# Altium footprint library PASSIVE_SMD.PCBLIB: 249 footprints (part 8 of 16)
Each footprint in its own frame and in the unit in brackets; x right, y up, seen from the top. Pads: shape width x height; smd on the part's side, far side on the other; paste and mask are expansions set on the pad; w line width, h text height; cw(c..) or ccw(c..) is an arc to the next point about the centre after c.
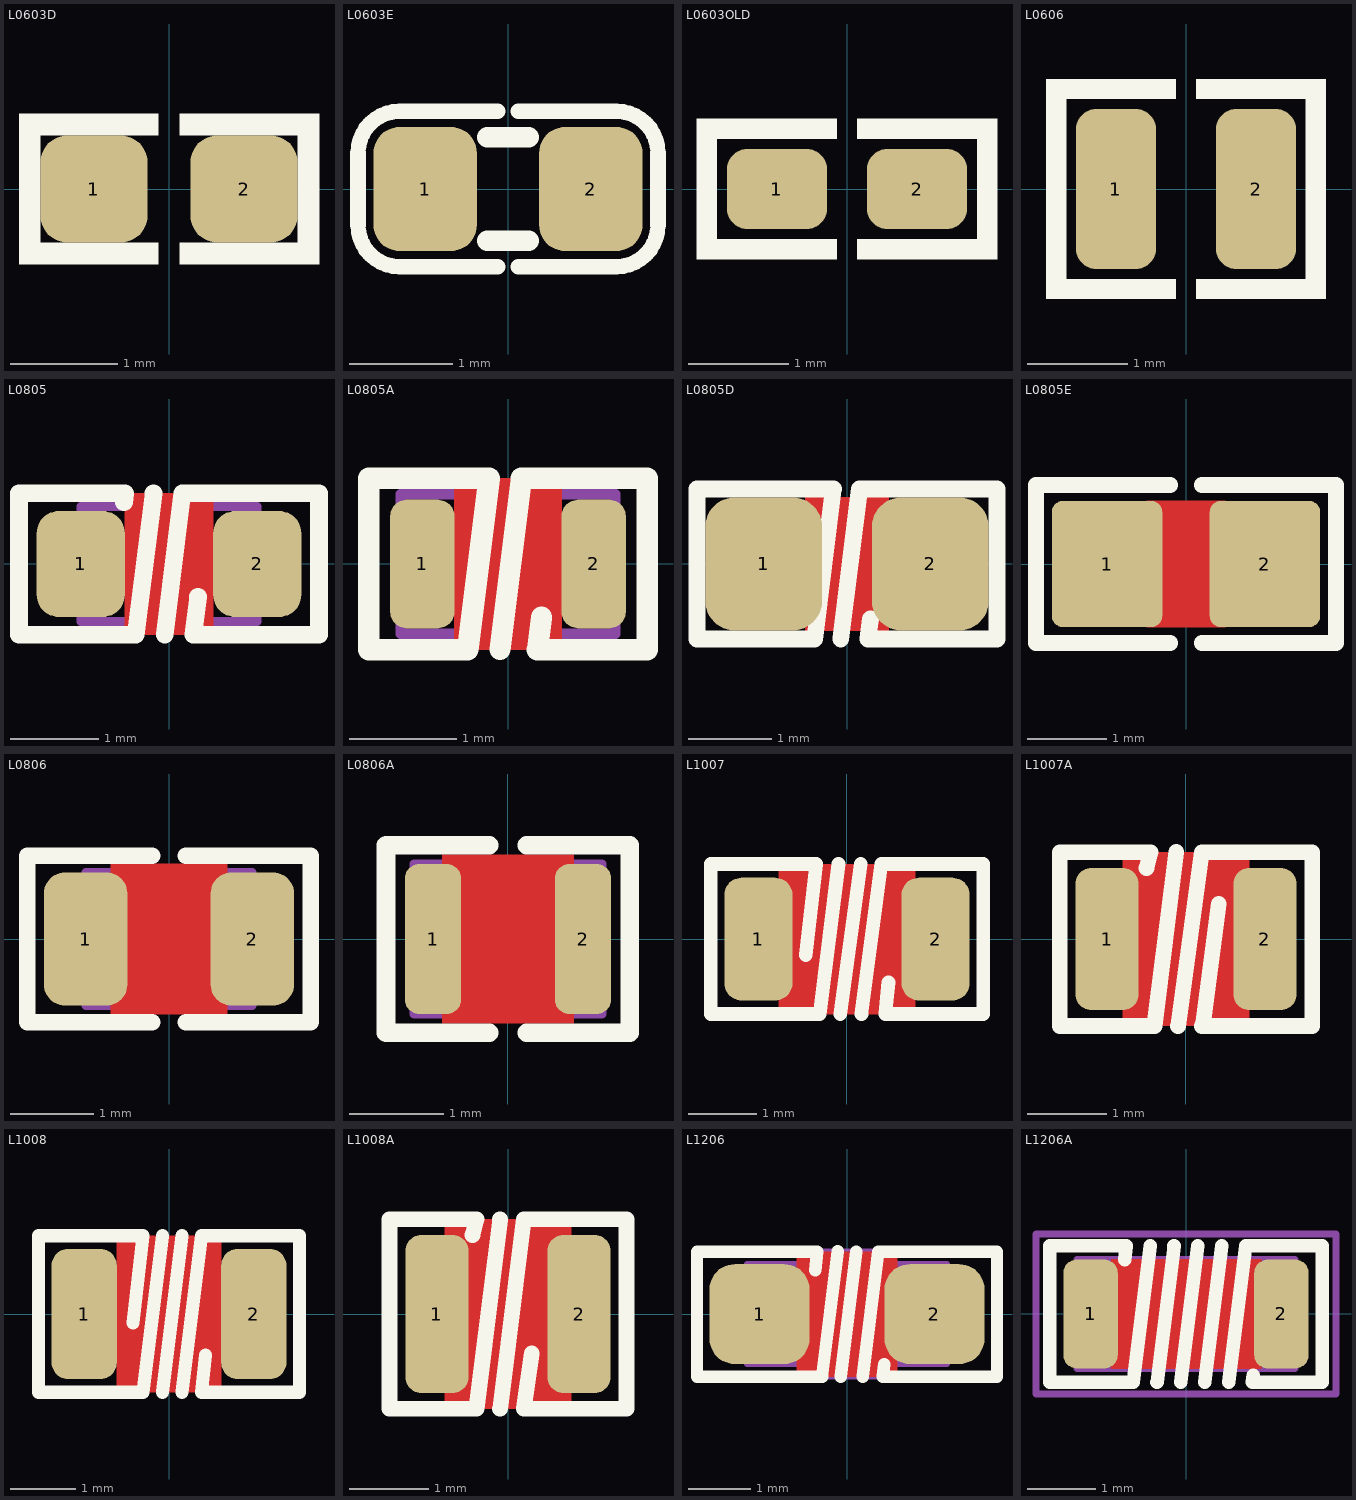
[diagram p7: the footprints below, top view; thin cyan lines are the x and y axes]

## L0603D [mm] "INDUCTOR, FERRITE BEAD, 0603, 1.6X0.8mm, SMD (SolderMask Defined)"
height 0.6
pads (2):
  rrect50% 1x1 smd paste-0.5 mask-0.1: 1(-0.7,0) 2(0.7,0)
Top Overlay:
  region: 0.1,-0.5 0.1,-0.7 1.4,-0.7 1.4,-0.5
  region: 0.1,0.5 0.1,0.7 1.4,0.7 1.4,0.5
  region: 1.4,0.7 1.2,0.7 1.2,-0.7 1.4,-0.7
  region: -1.4,0.7 -1.2,0.7 -1.2,-0.7 -1.4,-0.7
  region: -0.1,0.5 -0.1,0.7 -1.4,0.7 -1.4,0.5
  region: -0.1,-0.5 -0.1,-0.7 -1.4,-0.7 -1.4,-0.5
Top Paste:
  region: -0.4,-0.05 -0.4,0.05 -0.4,0.12 -0.453,0.248 -0.552,0.347 -0.68,0.4 -0.75,0.4 -0.85,0.4 -0.9,0.4 -0.992,0.362 -1.062,0.292 -1.1,0.2 -1.1,0.15 -1.1,-0.15 -1.1,-0.2 -1.062,-0.292 -0.992,-0.362 -0.9,-0.4 -0.85,-0.4 -0.75,-0.4 -0.68,-0.4 -0.552,-0.347 -0.453,-0.248 -0.4,-0.12
  region: 0.4,-0.05 0.4,0.05 0.4,0.12 0.453,0.248 0.552,0.347 0.68,0.4 0.75,0.4 0.85,0.4 0.9,0.4 0.992,0.362 1.062,0.292 1.1,0.2 1.1,0.15 1.1,-0.15 1.1,-0.2 1.062,-0.292 0.992,-0.362 0.9,-0.4 0.85,-0.4 0.75,-0.4 0.68,-0.4 0.552,-0.347 0.453,-0.248 0.4,-0.12
3D body "User Library-Chip Inductor0603.step": height 0.95, standoff 0, extent -0.8,-0.4 0.8,0.4

## L0603E [mm] "INDUCTOR, FERRITE BEAD, 0603, 1.6X0.8mm, EXPANDED PAD"
height 0.6
pads (2):
  rrect50% 1x1.2 smd paste-0.5 mask+0.05: 1(-0.8,0) 2(0.8,0)
Top Overlay:
  lines w0.15: -0.1,-0.75 -1.05,-0.75 cw(c-1.05,-0.35) -1.45,-0.35 -1.45,0.35 cw(c-1.05,0.35) -1.05,0.75 -0.1,0.75 ; 0.1,-0.75 1.05,-0.75 ccw(c1.05,-0.35) 1.45,-0.35 1.45,0.35 ccw(c1.05,0.35) 1.05,0.75 0.1,0.75
  lines w0.2: -0.2,-0.5 0.2,-0.5 ; -0.2,0.5 0.2,0.5
Top Paste:
  region: 0.35,-0.1 0.35,0.1 0.35,0.16 0.396,0.27 0.48,0.354 0.59,0.4 0.65,0.4 1.1,0.4 1.13,0.4 1.185,0.377 1.227,0.335 1.25,0.28 1.25,0.25 1.25,-0.25 1.25,-0.28 1.227,-0.335 1.185,-0.377 1.13,-0.4 1.1,-0.4 0.65,-0.4 0.59,-0.4 0.48,-0.354 0.396,-0.27 0.35,-0.16
  region: -0.35,-0.1 -0.35,0.1 -0.35,0.16 -0.396,0.27 -0.48,0.354 -0.59,0.4 -0.65,0.4 -1.1,0.4 -1.13,0.4 -1.185,0.377 -1.227,0.335 -1.25,0.28 -1.25,0.25 -1.25,-0.25 -1.25,-0.28 -1.227,-0.335 -1.185,-0.377 -1.13,-0.4 -1.1,-0.4 -0.65,-0.4 -0.59,-0.4 -0.48,-0.354 -0.396,-0.27 -0.35,-0.16
3D body "User Library-Chip Inductor0603.step": height 0.95, standoff 0, extent -0.8,-0.4 0.8,0.4

## L0603OLD [mm] "INDUCTOR, FERRITE BEAD, 0603, 1.6X0.8mm"
height 0.6
pads (2):
  rrect50% 1x0.8 smd paste-0.4 mask+0.05: 1(-0.7,0) 2(0.7,0)
Top Overlay:
  region: -0.1,-0.5 -0.1,-0.7 -1.5,-0.7 -1.5,-0.5
  region: -0.1,0.5 -0.1,0.7 -1.5,0.7 -1.5,0.5
  region: -1.5,0.7 -1.3,0.7 -1.3,-0.7 -1.5,-0.7
  region: 1.5,0.7 1.3,0.7 1.3,-0.7 1.5,-0.7
  region: 0.1,0.5 0.1,0.7 1.5,0.7 1.5,0.5
  region: 0.1,-0.5 0.1,-0.7 1.5,-0.7 1.5,-0.5
Top Paste:
  region: 0.7,0.35 0.63,0.35 0.502,0.297 0.403,0.198 0.35,0.07 0.35,0 0.35,-0.07 0.403,-0.198 0.502,-0.297 0.63,-0.35 0.7,-0.35 0.9,-0.35 0.93,-0.35 0.985,-0.327 1.027,-0.285 1.05,-0.23 1.05,-0.2 1.05,0.2 1.05,0.23 1.027,0.285 0.985,0.327 0.93,0.35 0.9,0.35
  region: -0.7,0.35 -0.63,0.35 -0.502,0.297 -0.403,0.198 -0.35,0.07 -0.35,0 -0.35,-0.07 -0.403,-0.198 -0.502,-0.297 -0.63,-0.35 -0.7,-0.35 -0.9,-0.35 -0.93,-0.35 -0.985,-0.327 -1.027,-0.285 -1.05,-0.23 -1.05,-0.2 -1.05,0.2 -1.05,0.23 -1.027,0.285 -0.985,0.327 -0.93,0.35 -0.9,0.35
3D body "User Library-Chip Inductor0603.step": height 0.95, standoff 0, extent -0.8,-0.4 0.8,0.4

## L0606 [mm] "INDUCTOR, FERRITE BEAD, 0603, 1.6X1.6mm"
height 0.6
pads (2):
  rrect50% 0.8x1.6 smd mask+0.05: 1(-0.7,0) 2(0.7,0)
Top Overlay:
  region: -0.1,-0.9 -0.1,-1.1 -1.4,-1.1 -1.4,-0.9
  region: -0.1,0.9 -0.1,1.1 -1.4,1.1 -1.4,0.9
  region: -1.4,1.1 -1.2,1.1 -1.2,-1.1 -1.4,-1.1
  region: 1.4,1.1 1.2,1.1 1.2,-1.1 1.4,-1.1
  region: 0.1,0.9 0.1,1.1 1.4,1.1 1.4,0.9
  region: 0.1,-0.9 0.1,-1.1 1.4,-1.1 1.4,-0.9
3D body: height 0.1, standoff 0, extent 0.3,-0.8 0.7,0.8
3D body: height 0.1, standoff 0, extent -0.7,-0.8 -0.3,0.8
3D body: height 0.3, standoff 0.1, extent -0.8,-0.8 0.8,0.8
3D body: height 0.7, standoff 0.1, extent -0.5,-0.5 0.5,0.5
3D body: height 1, standoff 0.7, extent -0.8,-0.8 0.8,0.8

## L0805 [mm] "INDUCTOR, FERRITE BEAD, 0805, 2.0X1.3mm"
pads (2):
  rrect50% 1x1.2 smd paste-0.1 mask+0.075: 1(-1,0) 2(1,0)
Top Layer:
  pour cut-out: -0.5,0.8 0.5,0.8 0.5,-0.8 -0.5,-0.8
Top Overlay:
  lines w0.2: -0.51,0.698 -0.498,0.8 ; -0.5,0.8 -1.7,0.8 -1.7,-0.8 -0.375,-0.8 -0.175,0.8 ; -0.05,-0.8 0.15,0.8 1.7,0.8 1.7,-0.8 0.275,-0.8 0.329,-0.369
Mechanical 13:
  lines w0.1: -1,-0.65 1,-0.65 1,0.65 -1,0.65 -1,-0.65
3D body "User Library-ind_0805.step": height 0.95, standoff 0, extent -1,-0.6 1,0.6

## L0805A [mm] "INDUCTOR, 2.0X1.3mm, 0805, for PCBA"
pads (2):
  rrect50% 0.6x1.2 smd mask+0.075: 1(-0.8,0) 2(0.8,0)
Top Layer:
  pour cut-out: -0.5,0.8 0.5,0.8 0.5,-0.8 -0.5,-0.8
Top Overlay:
  lines w0.2: -0.075,-0.797 0.125,0.8 1.3,0.8 1.3,-0.8 0.275,-0.8 0.313,-0.498 ; -1.3,-0.8 -1.3,0.8 -0.175,0.8 -0.375,-0.8 -1.3,-0.8
Mechanical 13:
  lines w0.1: -1,-0.65 1,-0.65 1,0.65 -1,0.65 -1,-0.65
3D body "User Library-ind_0805.step": height 0.95, standoff 0, extent -1,-0.6 1,0.6

## L0805D [mm] "INDUCTOR, FERRITE BEAD, 0805, 2.0X1.3mm, SMD (SolderMask Defined)"
pads (2):
  rrect50% 1.4x1.6 smd paste-5 mask-0.2: 1(-1,0) 2(1,0)
Top Layer:
  pour cut-out: -0.5,0.8 0.5,0.8 0.5,-0.8 -0.5,-0.8
Top Overlay:
  lines w0.2: -0.4,-0.9 -1.8,-0.9 -1.8,0.9 -0.175,0.9 ; -0.388,-0.902 -0.163,0.898 ; -0.075,-0.9 0.15,0.9 1.8,0.9 1.8,-0.9 0.25,-0.9 0.282,-0.657
Top Paste:
  region: -0.9,0.5 -0.82,0.5 -0.673,0.439 -0.561,0.327 -0.5,0.18 -0.5,0.1 -0.5,-0.1 -0.5,-0.18 -0.561,-0.327 -0.673,-0.439 -0.82,-0.5 -0.9,-0.5 -1.15,-0.5 -1.18,-0.5 -1.235,-0.477 -1.277,-0.435 -1.3,-0.38 -1.3,-0.35 -1.3,0.35 -1.3,0.38 -1.277,0.435 -1.235,0.477 -1.18,0.5 -1.15,0.5
  region: 0.9,0.5 0.82,0.5 0.673,0.439 0.561,0.327 0.5,0.18 0.5,0.1 0.5,-0.1 0.5,-0.18 0.561,-0.327 0.673,-0.439 0.82,-0.5 0.9,-0.5 1.15,-0.5 1.18,-0.5 1.235,-0.477 1.277,-0.435 1.3,-0.38 1.3,-0.35 1.3,0.35 1.3,0.38 1.277,0.435 1.235,0.477 1.18,0.5 1.15,0.5
Mechanical 13:
  lines w0.1: -1,-0.65 1,-0.65 1,0.65 -1,0.65 -1,-0.65
3D body "User Library-ind_0805.step": height 0.95, standoff 0, extent -1,-0.6 1,0.6

## L0805E [mm] "INDUCTOR, FERRITE BEAD, 0805, EXPANDED PAD"
pads (2):
  rrect20% 1.4x1.6 smd paste-0.7 mask+0.1: 1(-1,0) 2(1,0)
Top Layer:
  pour cut-out: -0.5,0.8 0.5,0.8 0.5,-0.8 -0.5,-0.8
Top Overlay:
  lines w0.2: -0.2,-1 -1.9,-1 -1.9,1 -0.2,1 ; 0.2,-1 1.9,-1 1.9,1 0.2,1
Top Paste:
  region: 0.5,0.2 0.5,0.28 0.561,0.427 0.673,0.539 0.82,0.6 0.9,0.6 1.4,0.6 1.44,0.6 1.513,0.57 1.57,0.513 1.6,0.44 1.6,0.4 1.6,-0.4 1.6,-0.44 1.57,-0.513 1.513,-0.57 1.44,-0.6 1.4,-0.6 0.9,-0.6 0.82,-0.6 0.673,-0.539 0.561,-0.427 0.5,-0.28 0.5,-0.2
  region: -0.5,0.2 -0.5,0.28 -0.561,0.427 -0.673,0.539 -0.82,0.6 -0.9,0.6 -1.4,0.6 -1.44,0.6 -1.513,0.57 -1.57,0.513 -1.6,0.44 -1.6,0.4 -1.6,-0.4 -1.6,-0.44 -1.57,-0.513 -1.513,-0.57 -1.44,-0.6 -1.4,-0.6 -0.9,-0.6 -0.82,-0.6 -0.673,-0.539 -0.561,-0.427 -0.5,-0.28 -0.5,-0.2
3D body "User Library-ind_0805.step": height 0.95, standoff 0, extent -1,-0.6 1,0.6

## L0806 [mm] "INDUCTOR, 2016, 0806, 2.0X1.6mm"
height 1
pads (2):
  rrect50% 1x1.6 smd paste-0.1 mask+0.05: 1(-1,0) 2(1,0)
Top Layer:
  pour cut-out: -0.7,0.9 0.7,0.9 0.7,-0.9 -0.7,-0.9
Top Overlay:
  lines w0.2: -0.2,-1 -1.7,-1 -1.7,1 -0.2,1 ; 0.2,-1 1.7,-1 1.7,1 0.2,1
Mechanical 13:
  lines w0.1: -1,-0.8 -1,0.8 1,0.8 1,-0.8 -1,-0.8
3D body: height 0.1, standoff 0, extent -1,-0.8 -0.5,0.8
3D body: height 1, standoff 0.1, extent -0.6,-0.8 0.6,0.8
3D body: height 1, standoff 0, extent -1,-0.8 -0.6,0.8
3D body: height 1, standoff 0, extent 0.6,-0.8 1,0.8
3D body: height 0.1, standoff 0, extent 0.5,-0.8 1,0.8

## L0806A [mm] "INDUCTOR, 2016, 0806, 2.0X1.6mm"
height 1
pads (2):
  rrect50% 0.6x1.6 smd paste-0.05 mask+0.05: 1(-0.8,0) 2(0.8,0)
Top Layer:
  pour cut-out: -0.7,0.9 0.7,0.9 0.7,-0.9 -0.7,-0.9
Top Overlay:
  lines w0.2: -0.2,-1 -1.3,-1 -1.3,1 -0.2,1 ; 0.2,-1 1.3,-1 1.3,1 0.2,1
Mechanical 13:
  lines w0.1: -1,-0.8 1,-0.8 1,0.8 -1,0.8 -1,-0.8
3D body: height 0.1, standoff 0, extent 0.5,-0.8 1,0.8
3D body: height 1, standoff 0, extent 0.6,-0.8 1,0.8
3D body: height 1, standoff 0, extent -1,-0.8 -0.6,0.8
3D body: height 1, standoff 0.1, extent -0.6,-0.8 0.6,0.8
3D body: height 0.1, standoff 0, extent -1,-0.8 -0.5,0.8

## L1007 [mm] "INDUCTOR, 2518 [1007], 2.5X1.8mm"
height 1.8
pads (2):
  rrect50% 1x1.8 smd paste-0.1 mask+0.075: 1(-1.3,0) 2(1.3,0)
Top Layer:
  pour cut-out: -1,1.1 -1,-1.1 1,-1.1 1,1.1
Top Overlay:
  lines w0.2: -0.604,-0.235 -0.45,1.1 -2,1.1 -2,-1.1 -0.4,-1.1 -0.125,1.103 ; -0.1,-1.1 0.2,1.1 ; 0.212,-1.102 0.5,1.1 2,1.1 2,-1.1 0.56,-1.1 0.608,-0.631
3D body: height 1.2, standoff 0, extent 1.2,-0.9 1.25,0.9
3D body: height 0.05, standoff 0, extent 0.65,-0.9 1.25,0.9
3D body: height 0.05, standoff 0, extent -1.25,-0.9 -0.65,0.9
3D body: height 1.2, standoff 0, extent -1.25,-0.9 -1.2,0.9
3D body: height 1.2, standoff 0.05, extent -1.2,-0.9 1.2,0.9

## L1007A [mm] "INDUCTOR, 2518 [1007], 2.5X1.8mm"
height 1.8
pads (2):
  rrect50% 0.8x1.8 smd paste-0.1 mask+0.075: 1(-1,0) 2(1,0)
Top Layer:
  pour cut-out: -0.8,1.1 -0.8,-1.1 0.8,-1.1 0.8,1.1
Top Overlay:
  lines w0.2: -0.5,0.9 -0.45,1.1 -1.6,1.1 -1.6,-1.1 -0.4,-1.1 -0.125,1.103 ; -0.1,-1.1 0.2,1.1 1.6,1.1 1.6,-1.1 0.2,-1.1 ; 0.212,-1.102 0.415,0.448
3D body: height 1.2, standoff 0.05, extent -1.2,-0.9 1.2,0.9
3D body: height 1.2, standoff 0, extent -1.25,-0.9 -1.2,0.9
3D body: height 0.05, standoff 0, extent -1.25,-0.9 -0.65,0.9
3D body: height 0.05, standoff 0, extent 0.65,-0.9 1.25,0.9
3D body: height 1.2, standoff 0, extent 1.2,-0.9 1.25,0.9

## L1008 [mm] "INDUCTOR, 2520 1008, 2.5X2.0mm"
pads (2):
  rrect50% 1x2 smd paste-0.1: 1(-1.3,0) 2(1.3,0)
Top Layer:
  pour cut-out: -0.8,1.2 -0.8,-1.2 0.8,-1.2 0.8,1.2
Top Overlay:
  lines w0.2: -0.554,-0.135 -0.4,1.2 -2,1.2 -2,-1.2 -0.4,-1.2 -0.1,1.2 ; -0.1,-1.2 0.2,1.2 ; 0.2,-1.2 0.5,1.2 2,1.2 2,-1.2 0.5,-1.2 0.558,-0.631
3D body: height 1.2, standoff 0.05, extent -1.2,-1 1.2,1
3D body: height 1.2, standoff 0, extent -1.25,-1 -1.2,1
3D body: height 1.2, standoff 0, extent 1.2,-1 1.25,1
3D body: height 0.05, standoff 0, extent -1.25,-1 -0.65,1
3D body: height 0.05, standoff 0, extent 0.65,-1 1.25,1

## L1008A [mm] "INDUCTOR, 2520 1008, 2.5X2.0mm, for PCBA"
pads (2):
  rrect50% 0.8x2 smd paste-0.1: 1(-0.9,0) 2(0.9,0)
Top Layer:
  pour cut-out: -0.8,1.2 -0.8,-1.2 0.8,-1.2 0.8,1.2
Top Overlay:
  lines w0.2: -0.45,1 -0.4,1.2 -1.5,1.2 -1.5,-1.2 -0.4,-1.2 -0.1,1.2 ; -0.1,-1.2 0.2,1.2 1.5,1.2 1.5,-1.2 0.2,-1.2 0.3,-0.5
3D body: height 1.2, standoff 0.05, extent -1.2,-1 1.2,1
3D body: height 1.2, standoff 0, extent -1.25,-1 -1.2,1
3D body: height 1.2, standoff 0, extent 1.2,-1 1.25,1
3D body: height 0.05, standoff 0, extent -1.25,-1 -0.65,1
3D body: height 0.05, standoff 0, extent 0.65,-1 1.25,1

## L1206 [mm] "INDUCTOR, FERRITE BEAD, 1206, 3.2X1.6mm"
height 2
pads (2):
  rrect50% 1.6x1.6 smd paste-0.8 mask+0.075: 1(-1.4,0) 2(1.4,0)
Top Layer:
  pour cut-out: -0.8,1 -0.8,-1 0.8,-1 0.8,1
Top Overlay:
  lines w0.2: -2.4,-1 -0.4,-1 -0.15,1.003 ; -2.4,-1 -2.4,1 -0.475,1 -0.51,0.698 ; -0.1,-1 0.15,1 ; 0.25,-1 0.5,1 2.4,1 2.4,-1 ; 0.596,-0.8 0.575,-1 2.4,-1
Top Paste:
  region: -0.7,-0.1 -0.7,0.1 -0.7,0.219 -0.791,0.44 -0.96,0.609 -1.181,0.7 -1.3,0.7 -1.8,0.7 -1.86,0.7 -1.97,0.654 -2.054,0.57 -2.1,0.46 -2.1,0.4 -2.1,-0.4 -2.1,-0.46 -2.054,-0.57 -1.97,-0.654 -1.86,-0.7 -1.8,-0.7 -1.3,-0.7 -1.181,-0.7 -0.96,-0.609 -0.791,-0.44 -0.7,-0.219
  region: 0.7,-0.1 0.7,0.1 0.7,0.219 0.791,0.44 0.96,0.609 1.181,0.7 1.3,0.7 1.8,0.7 1.86,0.7 1.97,0.654 2.054,0.57 2.1,0.46 2.1,0.4 2.1,-0.4 2.1,-0.46 2.054,-0.57 1.97,-0.654 1.86,-0.7 1.8,-0.7 1.3,-0.7 1.181,-0.7 0.96,-0.609 0.791,-0.44 0.7,-0.219
Mechanical 13:
  lines w0.1: -1.6,-0.8 -1.6,0.8 1.6,0.8 1.6,-0.8 -1.6,-0.8
Mechanical 15:
  lines w0.1: -0.5,0 0.5,0 ; 0,-0.5 0,0.5 ; -2.4,-1 2.4,-1 2.4,1 -2.4,1 -2.4,-1
3D body "User Library-ind_1206.step": height 1.1, standoff 0, extent -1.6,-0.8 1.6,0.8

## L1206A [mm] "INDUCTOR, FERRITE BEAD, 1206, for PCBA"
height 2
pads (2):
  rrect50% 0.8x1.6 smd mask+0.075: 1(-1.4,0) 2(1.4,0)
Top Layer:
  pour cut-out: -1.1,0.8 -1.1,-0.8 1.1,-0.8 1.1,0.8
Top Overlay:
  lines w0.2: -0.9,0.797 -0.875,1 -2,1 -2,-1 -0.775,-1 ; -0.775,-1 -0.525,1 ; -0.425,-1 -0.175,1 ; -0.075,-1 0.175,1 ; 0.275,-1 0.525,1 ; 0.625,-1 0.875,1 2,1 2,-1 0.975,-1 ; 0.975,-1 0.988,-0.898
Mechanical 13:
  lines w0.1: -1.6,-0.8 1.6,-0.8 1.6,0.8 -1.6,0.8 -1.6,-0.8
Mechanical 15:
  lines w0.1: -0.5,0 0.5,0 ; 0,-0.5 0,0.5 ; -2.2,-1.175 -2.2,1.175 2.2,1.175 2.2,-1.175 -2.2,-1.175
3D body "User Library-ind_1206.step": height 1.1, standoff 0, extent -1.6,-0.8 1.6,0.8